# Altium schematic symbol library ALTAIR_PD_Testpoint.SchLib: 1 symbol
Pins are listed as number, name and electrical type; pins without a type are passive.

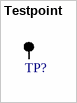
[diagram p0: symbol Testpoint]

## Testpoint
designator TP?  (value not drawn)  (no BOM)
footprint TESTPOINT THT
pins: 1